# Altium schematic symbol library TLV320DAC23.SchLib: 1 symbol
Pins are listed as number, name and electrical type; pins without a type are passive.

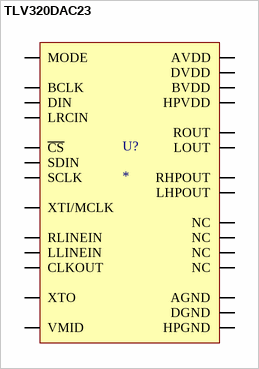
[diagram p0: symbol TLV320DAC23]

## TLV320DAC23
designator U?
pins: 1 DIN, 2 LRCIN, 3 NC, 4 NC, 5 HPVDD, 6 LHPOUT, 7 RHPOUT, 8 HPGND, 9 LOUT, 10 ROUT, 11 AVDD, 12 AGND, 13 VMID, 14 NC, 15 NC, 16 RLINEIN, 17 LLINEIN, 18 ~{CS}, 19 MODE, 20 SDIN, 21 SCLK, 22 XTI/MCLK, 23 XTO, 24 DVDD, 25 DGND, 26 BVDD, 27 CLKOUT, 28 BCLK